# Altium footprint library MyLib_IC.PcbLib: 1 footprints
Each footprint in its own frame and in the unit in brackets; x right, y up, seen from the top. Pads: shape width x height; smd on the part's side, far side on the other; paste and mask are expansions set on the pad; w line width, h text height; cw(c..) or ccw(c..) is an arc to the next point about the centre after c.
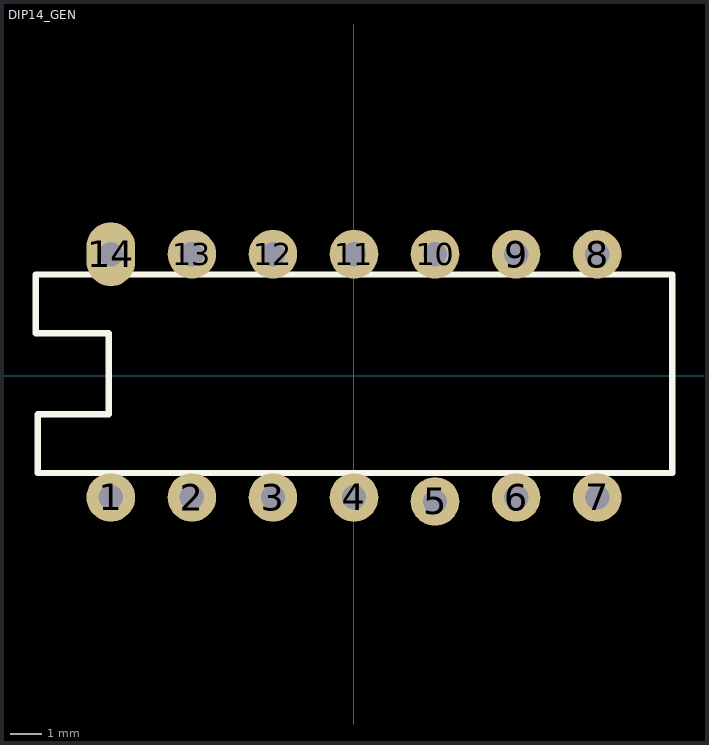
[diagram p0: the footprint, top view; thin cyan lines are the x and y axes]

## DIP14_GEN [mil] "DIP14"
pads (14):
  round 60 hole 30: 1(-300,-150) 2(-200,-150) 3(-100,-150) 4(0,-150) 5(100,-155) 6(200,-150) 7(300,-150) 8(300,150) 9(200,150) 10(100,150) 11(0,150) 12(-100,150) 13(-200,150)
  oval 60x78.74 hole 30: 14(-300,150)
Top Overlay:
  lines w7.87: -392.5,52.5 -302.5,52.5 -302.5,-47.5 -390.02,-47.5 -390.02,-120 392.52,-120 392.52,125 -392.5,125 -392.5,52.5
3D body "CircuitWorks-DIP-14.STEP": height 57.87, standoff -216.93, extent -374.99,-157.48 375,157.49